# EAGLE library part ATTINY45 (library SummerCart64)
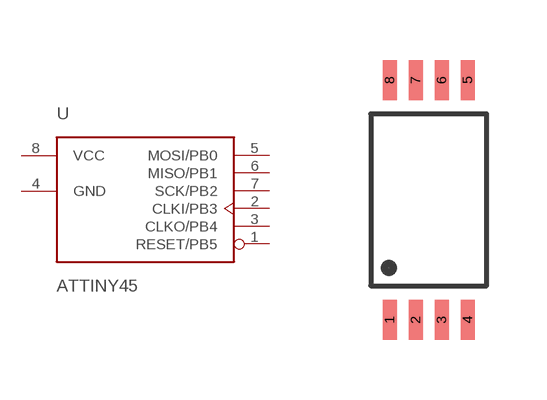
[diagram p5: symbol with the pads of TSSOP8; footprint TSSOP8]

Designator prefix U

## ATTINY45  [TSSOP8]
1  RESET/PB5
2  CLKI/PB3
3  CLKO/PB4
4  GND  pwr
5  MOSI/PB0
6  MISO/PB1
7  SCK/PB2
8  VCC  pwr

## Footprint TSSOP8 (pad centres in mm)
smd 0.35 x 1: 1 -0.975,-3; 2 -0.325,-3; 3 0.325,-3; 4 0.975,-3; 5 0.975,3; 6 0.325,3; 7 -0.325,3; 8 -0.975,3